# Altium schematic symbol library AquaDrone.SchLib: 196 symbols (part 2 of 2)
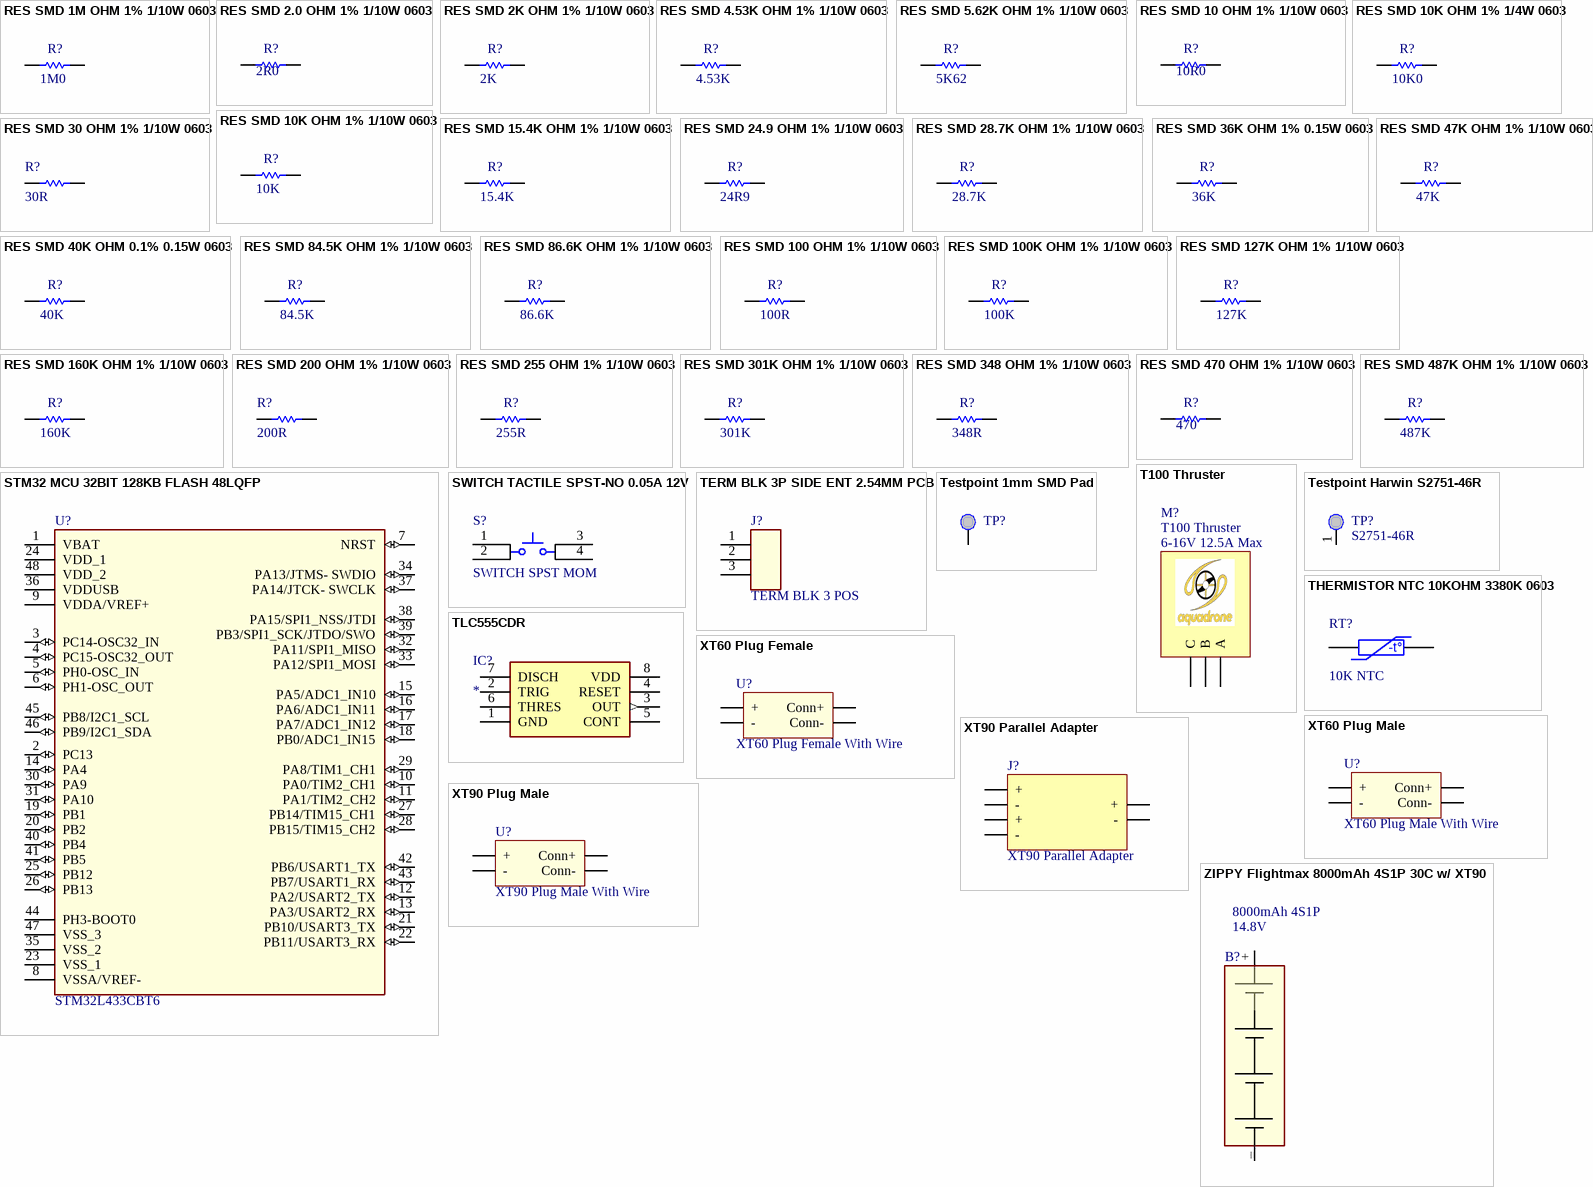
[diagram p5: symbols RES SMD 1M OHM 1% 1/10W 0603 to ZIPPY Flightmax 8000mAh 4S1P 30C w/ XT90]

## RES SMD 348 OHM 1% 1/10W 0603
designator R?  value 348R
RES SMD 348 OHM 1% 1/10W 0603; MFG_PART_NO: RC0603FR-07348RL; MFG: Yageo; COST: 0.15; TOLERANCE: 1%
footprint RESC1608X06N (0603, Body 1.5x0.8x0.55mm, IPC Medium Density)
pins: 1, 2

## RES SMD 470 OHM 1% 1/10W 0603
designator R?  value 470
RES SMD 470 OHM 1% 1/10W 0603; MFG_PART_NO: CRGCQ0603J470R; MFG: TE Connectivity Passive Product; COST: 0.15; TOLERANCE: 1%
footprint RESC1608X06N (0603, Body 1.5x0.8x0.55mm, IPC Medium Density)
pins: 1, 2

## RES SMD 487K OHM 1% 1/10W 0603
designator R?  value 487K
RES SMD 487K OHM 1% 1/10W 0603; MFG_PART_NO: RC0603FR-07487KL; MFG: Yageo; COST: 0.15; TOLERANCE: 1%
footprint RESC1608X06N (0603, Body 1.5x0.8x0.55mm, IPC Medium Density)
pins: 1, 2

## STM32 MCU 32BIT 128KB FLASH 48LQFP
designator U?  MFG_PART_NO: STM32L433CBT6
STM32 MCU 32BIT 128KB FLASH 48LQFP; MFG: STMicroelectronics; VALUE: STM32L433CBT6; COST: 7.83
footprint QFP50P900X900X160-48N
pins: 1 VBAT (power), 2 PC13 (io), 3 PC14-OSC32_IN (io), 4 PC15-OSC32_OUT (io), 5 PH0-OSC_IN (io), 6 PH1-OSC_OUT (io), 7 NRST (io), 8 VSSA/VREF- (power), 9 VDDA/VREF+ (power), 10 PA0/TIM2_CH1 (io), 11 PA1/TIM2_CH2 (io), 12 PA2/USART2_TX (io), 13 PA3/USART2_RX (io), 14 PA4 (io), 15 PA5/ADC1_IN10 (io), 16 PA6/ADC1_IN11 (io), 17 PA7/ADC1_IN12 (io), 18 PB0/ADC1_IN15 (io), 19 PB1 (io), 20 PB2 (io), 21 PB10/USART3_TX (io), 22 PB11/USART3_RX (io), 23 VSS_1 (power), 24 VDD_1 (power), 25 PB12 (io), 26 PB13 (io), 27 PB14/TIM15_CH1 (io), 28 PB15/TIM15_CH2 (io), 29 PA8/TIM1_CH1 (io), 30 PA9 (io), 31 PA10 (io), 32 PA11/SPI1_MISO (io), 33 PA12/SPI1_MOSI (io), 34 PA13/JTMS- SWDIO (io), 35 VSS_2 (power), 36 VDDUSB (power), 37 PA14/JTCK- SWCLK (io), 38 PA15/SPI1_NSS/JTDI (io), 39 PB3/SPI1_SCK/JTDO/SWO (io), 40 PB4 (io), 41 PB5 (io), 42 PB6/USART1_TX (io), 43 PB7/USART1_RX (io), 44 PH3-BOOT0 (power), 45 PB8/I2C1_SCL (io), 46 PB9/I2C1_SDA (io), 47 VSS_3 (power), 48 VDD_2 (power)

## SWITCH TACTILE SPST-NO 0.05A 12V
designator S?  value SWITCH SPST MOM
SWITCH TACTILE SPST-NO 0.05A 12V; MFG_PART_NO: PTS645SM43SMTR92 LFS; MFG: C&K; COST: 0.24; VOLTAGE: 12V; CURRENT: 0.05A
footprint PTS645SM43SMTR92LFS
pins: 1, 2, 3, 4

## T100 Thruster
designator M?  value T100 Thruster  VOLTAGE: 6-16V 12.5A Max
T100 Thruster; COST1K: 119; MFG: Blue Robotics; MFG_PART_NO: T100; ROHS: Y
pins: ?1 A "Cathode", ?2 B "Cathode", ?3 C "Common Anode"

## TERM BLK 3P SIDE ENT 2.54MM PCB
designator J?  value TERM BLK 3 POS
TERM BLK 3P SIDE ENT 2.54MM PCB; MFG_PART_NO: 282834-3; MFG: TE Connectivity; COST: 2.9
footprint SHDR3W100P0X254_1X3_808X650X1030P
pins: 1, 2, 3

## Testpoint 1mm SMD Pad
designator TP?  (no BOM)
Testpoint 1.0mm SMD Pad; VALUE: TP_SMD_1.0MM; ROHS: Y; STATUS: CHECKED
footprint TP_SMD_1.0MM
pins: 1

## Testpoint Harwin S2751-46R
designator TP?  value S2751-46R
PC TEST POINT TIN SMD; MFG: Harwin Inc.; MFG_PART_NO: S2751-46R; COST: 0.12320
footprint TP_HARWIN_2751-46R (SMD Test Point)
pins: 1

## THERMISTOR NTC 10KOHM 3380K 0603
designator RT?  value 10K NTC
THERMISTOR NTC 10KOHM 3380K 0603; MFG_PART_NO: NCU18XH103J60RB; MFG: Murata Electronics; TOLERANCE: 5%; COST: 0.17
footprint RESC1608X06N (0603, Body 1.5x0.8x0.55mm, IPC Medium Density)
pins: 1, 2
text: -t°

## TLC555CDR
designator IC?
Integrated Circuit; Manufacturer_Name: Texas Instruments; Manufacturer_Part_Number: TLC555CDR; Datasheet Link: http://docs-emea.rs-online.com/webdocs/0cb9/0900766b80cb9d34.pdf; Height: 1.75mm; Mouser Part Number: 595-TLC555CDR; Mouser Price/Stock: https://www.mouser.com/Search/Refine.aspx?Keyword=595-TLC555CDR; RS Part Number: 6624006P; RS Price/Stock: http://uk.rs-online.com/web/p/products/6624006P
footprint SOIC127P600X175-8N
pins: 1 GND (power), 2 TRIG, 3 OUT (out), 4 RESET, 5 CONT, 6 THRES, 7 DISCH, 8 VDD (power)

## XT60 Plug Female
designator U?  value XT60 Plug Female With Wire
XT60 Plug Female; MFG_PART_NO: 015000064; COST1K: 5.57; MFG: hobbyking; ROHS: Y
pins: ?1 + (power), ?2 - (power), ?3 Conn+ (power), ?4 Conn- (power)

## XT60 Plug Male
designator U?  value XT60 Plug Male With Wire
XT60 Plug Male; MFG_PART_NO: 015000064; COST1K: 5.57; MFG: hobbyking; ROHS: Y
pins: ?1 + (power), ?2 - (power), ?3 Conn+ (power), ?4 Conn- (power)

## XT90 Parallel Adapter
designator J?  value XT90 Parallel Adapter
XT90 Parallel Adapter; MFG_PART_NO: 015000144; COST1K: 3.56; MFG: hobbyking; ROHS: Y
pins: 1 +, 2 -, 2 -, 3 +, 3 +, 4 -

## XT90 Plug Male
designator U?  value XT90 Plug Male With Wire
XT90 Plug Male; MFG_PART_NO: 015000064; COST1K: 7.28; MFG: hobbyking; ROHS: Y
pins: ?1 + (power), ?2 - (power), ?3 Conn+ (power), ?4 Conn- (power)

## ZIPPY Flightmax 8000mAh 4S1P 30C w/ XT90
designator B?  value 8000mAh 4S1P  VOLTAGE: 14.8V
ZIPPY Flightmax 8000mAh 4S1P 30C w/ XT90; MFG_PART_NO: 9067000298; COST1K: 70; MFG: hobbyking; ROHS: Y
pins: + (power), _ (power)